# Altium integrated library ConnectorPowerJack.IntLib: 6 symbols
Pins are listed as number, name and electrical type; pins without a type are passive.

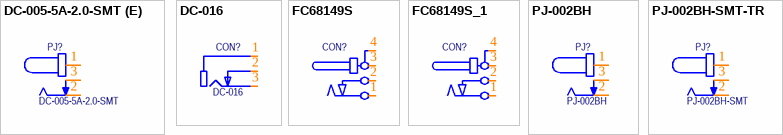
[diagram p0: symbols DC-005-5A-2.0-SMT (E) to PJ-002BH-SMT-TR]

## DC-005-5A-2.0-SMT (E)
designator PJ?, comment DC-005-5A-2.0-SMT
DC Power Receptacle Jack 2.5A 2.0mm 6.6mm SMD AC/DC Power Plugs & Receptacles RoHS; Manufacturer: XKB Connectivity; Temp.Characteristic: -40C to +85C; Publisher: Catcatcat Electronics; Manufacturer PartNumber: DC-005-5A-2.0-SMT; Website developer: http://catcatcat.d-lan.dp.ua/; Assembly type: Manual Part; Detailed Description: DC Power Receptacle Jack 2.5A 2.0mm 6.6mm SMD AC/DC Power Plugs & Receptacles RoHS; Manufacturer URL: https://datasheet.lcsc.com/szlcsc/1810291122_XKB-Connectivity-DC-005-5A-2-0-SMT_C319134.pdf; Package / Case: SMD; PartNumber LCSC: C319134; Pricing LCSC: 0.1726; Value: DC-005-5A-2.0-SMT
footprint DC-005-5A-2.0-SMT (Dc Power Jack Connector)
pins: 1, 2, 3

## DC-016
designator CON?
DC Power Jack Connector; Manufacturer PartNumber: KLS1-DC-016; Temp.Characteristic: -40C to +85C; Publisher: Catcatcat Electronics; HelpURL: http://www.klsele.com/admin/product_upload/20200110123426L-KLS1-DC-016.pdf; Website developer: http://catcatcat.d-lan.dp.ua/; Assembly type: Manual Part; Manufacturer URL: http://www.klsele.com/; Value: DC-016
footprint DC-016 (Dc Power Jack Connector)
pins: 1, 2, 3

## FC68149S
designator CON?  (value not drawn)
Temp.Characteristic: -40C to +85C; Value: *; Publisher: Catcatcat Electronics; Website developer: http://catcatcat.d-lan.dp.ua/; Assembly type: Manual Part
footprint FC68149S
pins: 1, 2, 3, 4

## FC68149S_1
designator CON?, comment FC68149S  (value not drawn)
Temp.Characteristic: -40C to +85C; Value: *; Publisher: Catcatcat Electronics; Website developer: http://catcatcat.d-lan.dp.ua/; Assembly type: Manual Part
footprint FC68149S
pins: 1, 2, 3, 4

## PJ-002BH
designator PJ?
Dc Power Jack Connector; Manufacturer: CUI, Inc; Manufacturer PartNumber: PJ-002BH-SMT-TR; Temp.Characteristic: -40C to +85C; Publisher: Catcatcat Electronics; Website developer: http://catcatcat.d-lan.dp.ua/; Assembly type: Manual Part; Value: PJ-002BH
footprint PJ-002BH (Dc Power Jack Connector)
pins: 1, 2, 3

## PJ-002BH-SMT-TR
designator PJ?, comment PJ-002BH-SMT
Dc Power Jack Connector; Manufacturer: CUI, Inc; Manufacturer PartNumber: PJ-002BH-SMT-TR; Temp.Characteristic: -40C to +85C; Publisher: Catcatcat Electronics; Website developer: http://catcatcat.d-lan.dp.ua/; Assembly type: Manual Part; Value: PJ-002BH-SMT
footprint PJ-002BH-SMT-TR (Dc Power Jack Connector)
pins: 1, 2, 3